# Altium footprint library 针式跳线.PcbLib: 23 footprints (part 2 of 2)
Each footprint in its own frame and in the unit in brackets; x right, y up, seen from the top. Pads: shape width x height; smd on the part's side, far side on the other; paste and mask are expansions set on the pad; w line width, h text height; cw(c..) or ccw(c..) is an arc to the next point about the centre after c.
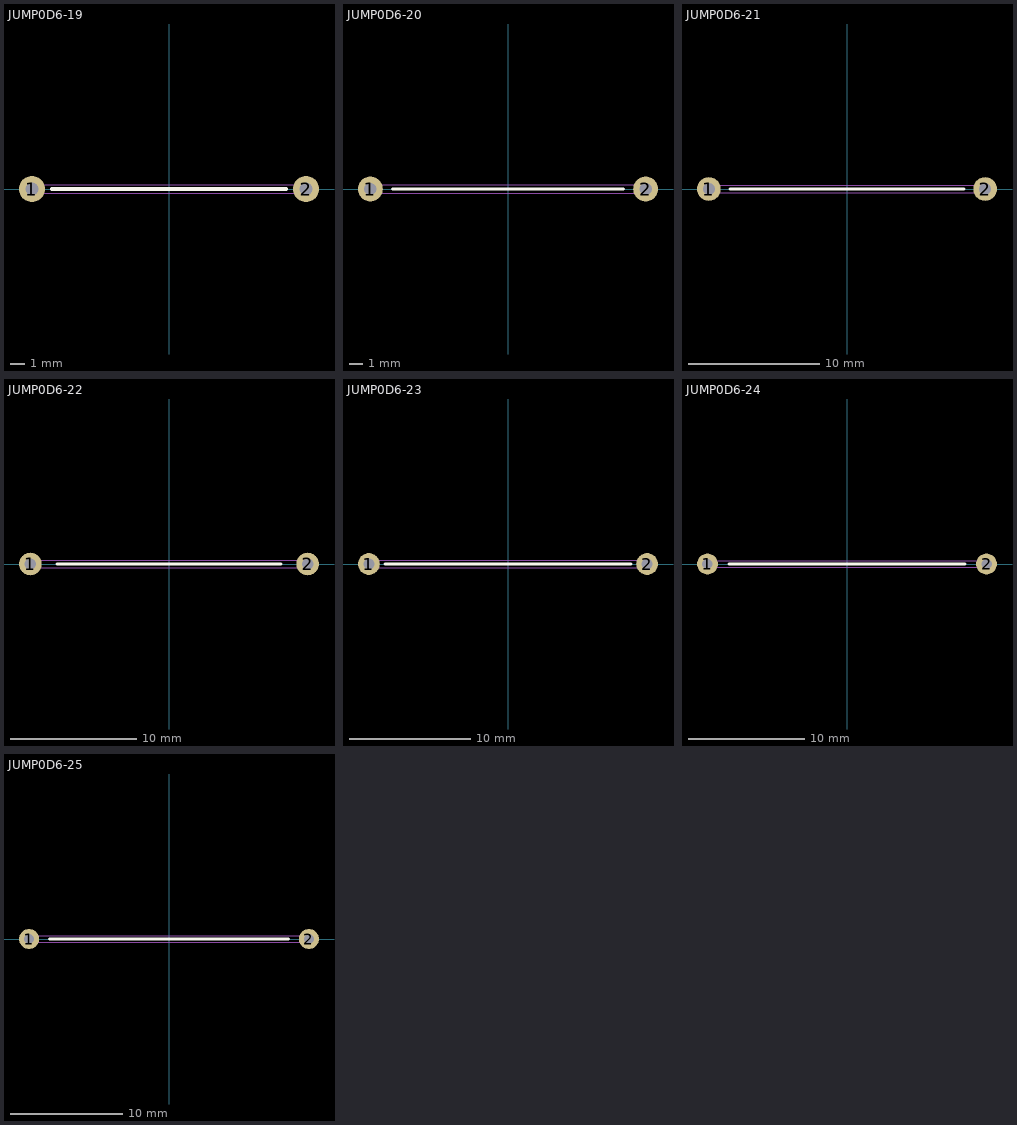
[diagram p1: the footprints below, top view; thin cyan lines are the x and y axes]

## JUMP0D6-19 [mm] "跳线"
height 1.5
pads (2):
  round 1.8 hole 0.9: 1(-9.5,0) 2(9.5,0)
Top Overlay:
  lines w0.254: -8.128,0 8.128,0
Mechanical 13:
  lines w0.05: -9.8,-0.3 -9.8,0.3 9.8,0.3 9.8,-0.3 -9.8,-0.3
Mechanical 15:
  lines w0.025: -0.1,0 0.1,0 ; 0,-0.1 0,0.1
3D body: height 1.3, standoff -3.5, extent -9.8,-0.3 9.8,0.3

## JUMP0D6-20 [mm] "跳线"
height 1.5
pads (2):
  round 1.8 hole 0.9: 1(-10,0) 2(10,0)
Top Overlay:
  lines w0.254: -8.382,0 8.382,0
Mechanical 13:
  lines w0.05: -10.3,-0.3 10.3,-0.3 10.3,0.3 -10.3,0.3 -10.3,-0.3
Mechanical 15:
  lines w0.025: -0.1,0 0.1,0 ; 0,-0.1 0,0.1
3D body: height 1.3, standoff -3.5, extent -10.3,-0.3 10.3,0.3

## JUMP0D6-21 [mm] "跳线"
height 1.5
pads (2):
  round 1.8 hole 0.9: 1(-10.5,0) 2(10.5,0)
Top Overlay:
  lines w0.254: -8.89,0 8.89,0
Mechanical 13:
  lines w0.05: -10.8,-0.3 10.8,-0.3 10.8,0.3 -10.8,0.3 -10.8,-0.3
Mechanical 15:
  lines w0.025: -0.1,0 0.1,0 ; 0,-0.1 0,0.1
3D body: height 1.3, standoff -3.5, extent -10.8,-0.3 10.8,0.3

## JUMP0D6-22 [mm] "跳线"
height 1.5
pads (2):
  round 1.8 hole 0.9: 1(-11,0) 2(11,0)
Top Overlay:
  lines w0.254: -8.89,0 8.89,0
Mechanical 13:
  lines w0.05: -11.3,-0.3 11.3,-0.3 11.3,0.3 -11.3,0.3 -11.3,-0.3
Mechanical 15:
  lines w0.025: -0.1,0 0.1,0 ; 0,-0.1 0,0.1
3D body: height 1.3, standoff -3.5, extent -11.3,-0.3 11.3,0.3

## JUMP0D6-23 [mm] "跳线"
height 1.5
pads (2):
  round 1.8 hole 0.9: 1(-11.5,0) 2(11.5,0)
Top Overlay:
  lines w0.254: -10.16,0 10.16,0
Mechanical 13:
  lines w0.05: -11.8,-0.3 -11.8,0.3 11.8,0.3 11.8,-0.3 -11.8,-0.3
Mechanical 15:
  lines w0.025: -0.1,0 0.1,0 ; 0,-0.1 0,0.1
3D body: height 1.3, standoff -3.5, extent -11.8,-0.3 11.8,0.3

## JUMP0D6-24 [mm] "跳线"
height 1.5
pads (2):
  round 1.8 hole 0.9: 1(-12,0) 2(12,0)
Top Overlay:
  lines w0.254: -10.16,0 10.16,0
Mechanical 13:
  lines w0.05: -12.3,-0.3 -12.3,0.3 12.3,0.3 12.3,-0.3 -12.3,-0.3
Mechanical 15:
  lines w0.025: -0.1,0 0.1,0 ; 0,-0.1 0,0.1
3D body: height 1.3, standoff -3.5, extent -12.3,-0.3 12.3,0.3

## JUMP0D6-25 [mm] "跳线"
height 1.5
pads (2):
  round 1.8 hole 0.9: 1(-12.5,0) 2(12.5,0)
Top Overlay:
  lines w0.254: -10.668,0 10.668,0
Mechanical 13:
  lines w0.05: -12.8,-0.3 12.8,-0.3 12.8,0.3 -12.8,0.3 -12.8,-0.3
Mechanical 15:
  lines w0.025: -0.1,0 0.1,0 ; 0,-0.1 0,0.1
3D body: height 1.3, standoff -3.5, extent -12.8,-0.3 12.8,0.3